# Altium integrated library NSC MiscPower.IntLib: 742 symbols (part 4 of 19)
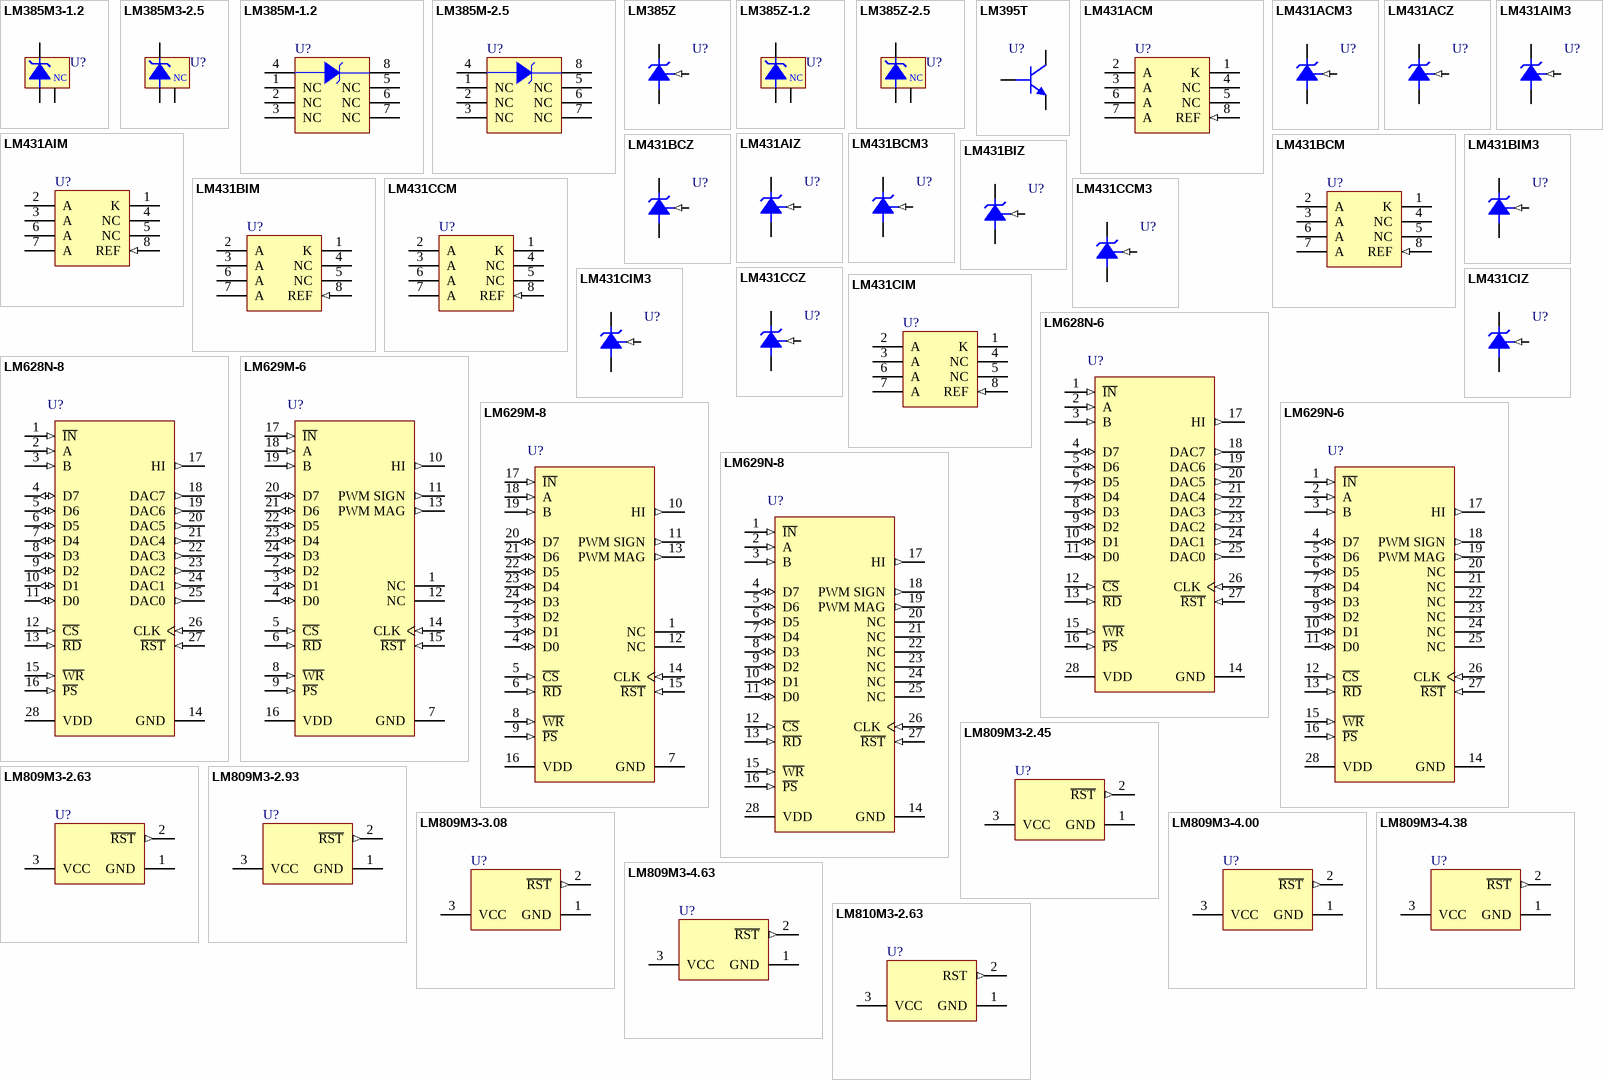
[diagram p28: symbols LM385M3-1.2 to LM810M3-2.63]

## LM809M3-2.93
designator U?
3-Pin Microprocessor Reset Circuit, 2.93V Threshold; PartNumber: LM809M3-2.93; Manufacturer: National Semiconductor; CompType: MiscPower; PackageTopMarking: S4B*XTT; PowerWise: N; FirstPublished: 4-Dec-2008; DatasheetVersion: Sep-2002; PackageVersion: revB, Mar-2003; PackageReference: MF03A; Publisher: Altium Limited; PackageDescription: Molded SOT-23, .115 x .051 x .037in Body, 3 Lead, .075 in Pitch; RoHS: O; PinCount: 3; DigiKeyPartNumber: LM809M3-2.93CT-ND; ComponentLink1Description: LM809 Datasheet; ComponentLink1URL: http://www.national.com/ds/LM/LM809.pdf; ComponentLink2Description: LM809 Web Page; ComponentLink2URL: http://www.national.com/mpf/LM/LM809.html; ComponentLink3Description: MF03A Package Page; ComponentLink3URL: http://www.national.com/packaging/folders/mf03a.html
footprint MF03A_N (SOT23, 3-Leads, Body 2.9x1.3mm, Pitch 0.95mm, Lead Span 2.4mm, IPC Medium Density)
footprint MF03A_L (SOT23, 3-Leads, Body 2.9x1.3mm, Pitch 0.95mm, Lead Span 2.4mm, IPC High Density)
footprint MF03A_M (SOT23, 3-Leads, Body 2.9x1.3mm, Pitch 0.95mm, Lead Span 2.4mm, IPC Low Density)
pins: 1 GND (power), 2 ~{RST} (out), 3 VCC (power)

## LM809M3-3.08
designator U?
3-Pin Microprocessor Reset Circuit, 3.08V Threshold; PartNumber: LM809M3-3.08; Manufacturer: National Semiconductor; CompType: MiscPower; PackageTopMarking: S5B*XTT; PowerWise: N; FirstPublished: 4-Dec-2008; DatasheetVersion: Sep-2002; PackageVersion: revB, Mar-2003; PackageReference: MF03A; Publisher: Altium Limited; PackageDescription: Molded SOT-23, .115 x .051 x .037in Body, 3 Lead, .075 in Pitch; RoHS: O; PinCount: 3; DigiKeyPartNumber: LM809M3-3.08CT-ND; ComponentLink1Description: LM809 Datasheet; ComponentLink1URL: http://www.national.com/ds/LM/LM809.pdf; ComponentLink2Description: LM809 Web Page; ComponentLink2URL: http://www.national.com/mpf/LM/LM809.html; ComponentLink3Description: MF03A Package Page; ComponentLink3URL: http://www.national.com/packaging/folders/mf03a.html
footprint MF03A_N (SOT23, 3-Leads, Body 2.9x1.3mm, Pitch 0.95mm, Lead Span 2.4mm, IPC Medium Density)
footprint MF03A_L (SOT23, 3-Leads, Body 2.9x1.3mm, Pitch 0.95mm, Lead Span 2.4mm, IPC High Density)
footprint MF03A_M (SOT23, 3-Leads, Body 2.9x1.3mm, Pitch 0.95mm, Lead Span 2.4mm, IPC Low Density)
pins: 1 GND (power), 2 ~{RST} (out), 3 VCC (power)

## LM809M3-4.00
designator U?
3-Pin Microprocessor Reset Circuit, 4.00V Threshold; PartNumber: LM809M3-4.00; Manufacturer: National Semiconductor; CompType: MiscPower; PackageTopMarking: S6B*XTT; PowerWise: N; FirstPublished: 4-Dec-2008; DatasheetVersion: Sep-2002; PackageVersion: revB, Mar-2003; PackageReference: MF03A; Publisher: Altium Limited; PackageDescription: Molded SOT-23, .115 x .051 x .037in Body, 3 Lead, .075 in Pitch; RoHS: Y; PinCount: 3; DigiKeyPartNumber: LM809M3-4.00CT-ND; ComponentLink1Description: LM809 Datasheet; ComponentLink1URL: http://www.national.com/ds/LM/LM809.pdf; ComponentLink2Description: LM809 Web Page; ComponentLink2URL: http://www.national.com/mpf/LM/LM809.html; ComponentLink3Description: MF03A Package Page; ComponentLink3URL: http://www.national.com/packaging/folders/mf03a.html
footprint MF03A_N (SOT23, 3-Leads, Body 2.9x1.3mm, Pitch 0.95mm, Lead Span 2.4mm, IPC Medium Density)
footprint MF03A_L (SOT23, 3-Leads, Body 2.9x1.3mm, Pitch 0.95mm, Lead Span 2.4mm, IPC High Density)
footprint MF03A_M (SOT23, 3-Leads, Body 2.9x1.3mm, Pitch 0.95mm, Lead Span 2.4mm, IPC Low Density)
pins: 1 GND (power), 2 ~{RST} (out), 3 VCC (power)

## LM809M3-4.38
designator U?
3-Pin Microprocessor Reset Circuit, 4.38V Threshold; PartNumber: LM809M3-4.38; Manufacturer: National Semiconductor; CompType: MiscPower; PackageTopMarking: S7B*XTT; PowerWise: N; FirstPublished: 4-Dec-2008; DatasheetVersion: Sep-2002; PackageVersion: revB, Mar-2003; PackageReference: MF03A; Publisher: Altium Limited; PackageDescription: Molded SOT-23, .115 x .051 x .037in Body, 3 Lead, .075 in Pitch; RoHS: Y; PinCount: 3; DigiKeyPartNumber: LM809M3-4.38CT-ND; ComponentLink1Description: LM809 Datasheet; ComponentLink1URL: http://www.national.com/ds/LM/LM809.pdf; ComponentLink2Description: LM809 Web Page; ComponentLink2URL: http://www.national.com/mpf/LM/LM809.html; ComponentLink3Description: MF03A Package Page; ComponentLink3URL: http://www.national.com/packaging/folders/mf03a.html
footprint MF03A_N (SOT23, 3-Leads, Body 2.9x1.3mm, Pitch 0.95mm, Lead Span 2.4mm, IPC Medium Density)
footprint MF03A_L (SOT23, 3-Leads, Body 2.9x1.3mm, Pitch 0.95mm, Lead Span 2.4mm, IPC High Density)
footprint MF03A_M (SOT23, 3-Leads, Body 2.9x1.3mm, Pitch 0.95mm, Lead Span 2.4mm, IPC Low Density)
pins: 1 GND (power), 2 ~{RST} (out), 3 VCC (power)

## LM809M3-4.63
designator U?
3-Pin Microprocessor Reset Circuit, 4.63V Threshold; PartNumber: LM809M3-4.63; Manufacturer: National Semiconductor; CompType: MiscPower; PackageTopMarking: S8B*XTT; PowerWise: N; FirstPublished: 4-Dec-2008; DatasheetVersion: Sep-2002; PackageVersion: revB, Mar-2003; PackageReference: MF03A; Publisher: Altium Limited; PackageDescription: Molded SOT-23, .115 x .051 x .037in Body, 3 Lead, .075 in Pitch; RoHS: Y; PinCount: 3; DigiKeyPartNumber: LM809M3-4.63CT-ND; ComponentLink1Description: LM809 Datasheet; ComponentLink1URL: http://www.national.com/ds/LM/LM809.pdf; ComponentLink2Description: LM809 Web Page; ComponentLink2URL: http://www.national.com/mpf/LM/LM809.html; ComponentLink3Description: MF03A Package Page; ComponentLink3URL: http://www.national.com/packaging/folders/mf03a.html
footprint MF03A_N (SOT23, 3-Leads, Body 2.9x1.3mm, Pitch 0.95mm, Lead Span 2.4mm, IPC Medium Density)
footprint MF03A_L (SOT23, 3-Leads, Body 2.9x1.3mm, Pitch 0.95mm, Lead Span 2.4mm, IPC High Density)
footprint MF03A_M (SOT23, 3-Leads, Body 2.9x1.3mm, Pitch 0.95mm, Lead Span 2.4mm, IPC Low Density)
pins: 1 GND (power), 2 ~{RST} (out), 3 VCC (power)

## LM810M3-2.63
designator U?
3-Pin Microprocessor Reset Circuit, 2.63V Threshold; PartNumber: LM810M3-2.63; Manufacturer: National Semiconductor; CompType: MiscPower; PackageTopMarking: S9B*XTT; PowerWise: N; FirstPublished: 29-May-2009; DatasheetVersion: Sep-2002; PackageVersion: revB, Mar-2003; PackageReference: MF03A; Publisher: Altium Limited; PackageDescription: Molded SOT-23, .115 x .051 x .037in Body, 3 Lead, .075 in Pitch; RoHS: Y; PinCount: 3; DigiKeyPartNumber: LM810M3-2.63CT-ND; ComponentLink1Description: LM810 Datasheet; ComponentLink1URL: http://www.national.com/ds/LM/LM809.pdf; ComponentLink2Description: LM810 Web Page; ComponentLink2URL: http://www.national.com/mpf/LM/LM810.html; ComponentLink3Description: MF03A Package Page; ComponentLink3URL: http://www.national.com/packaging/folders/mf03a.html
footprint MF03A_N (SOT23, 3-Leads, Body 2.9x1.3mm, Pitch 0.95mm, Lead Span 2.4mm, IPC Medium Density)
footprint MF03A_L (SOT23, 3-Leads, Body 2.9x1.3mm, Pitch 0.95mm, Lead Span 2.4mm, IPC High Density)
footprint MF03A_M (SOT23, 3-Leads, Body 2.9x1.3mm, Pitch 0.95mm, Lead Span 2.4mm, IPC Low Density)
pins: 1 GND (power), 2 RST (out), 3 VCC (power)

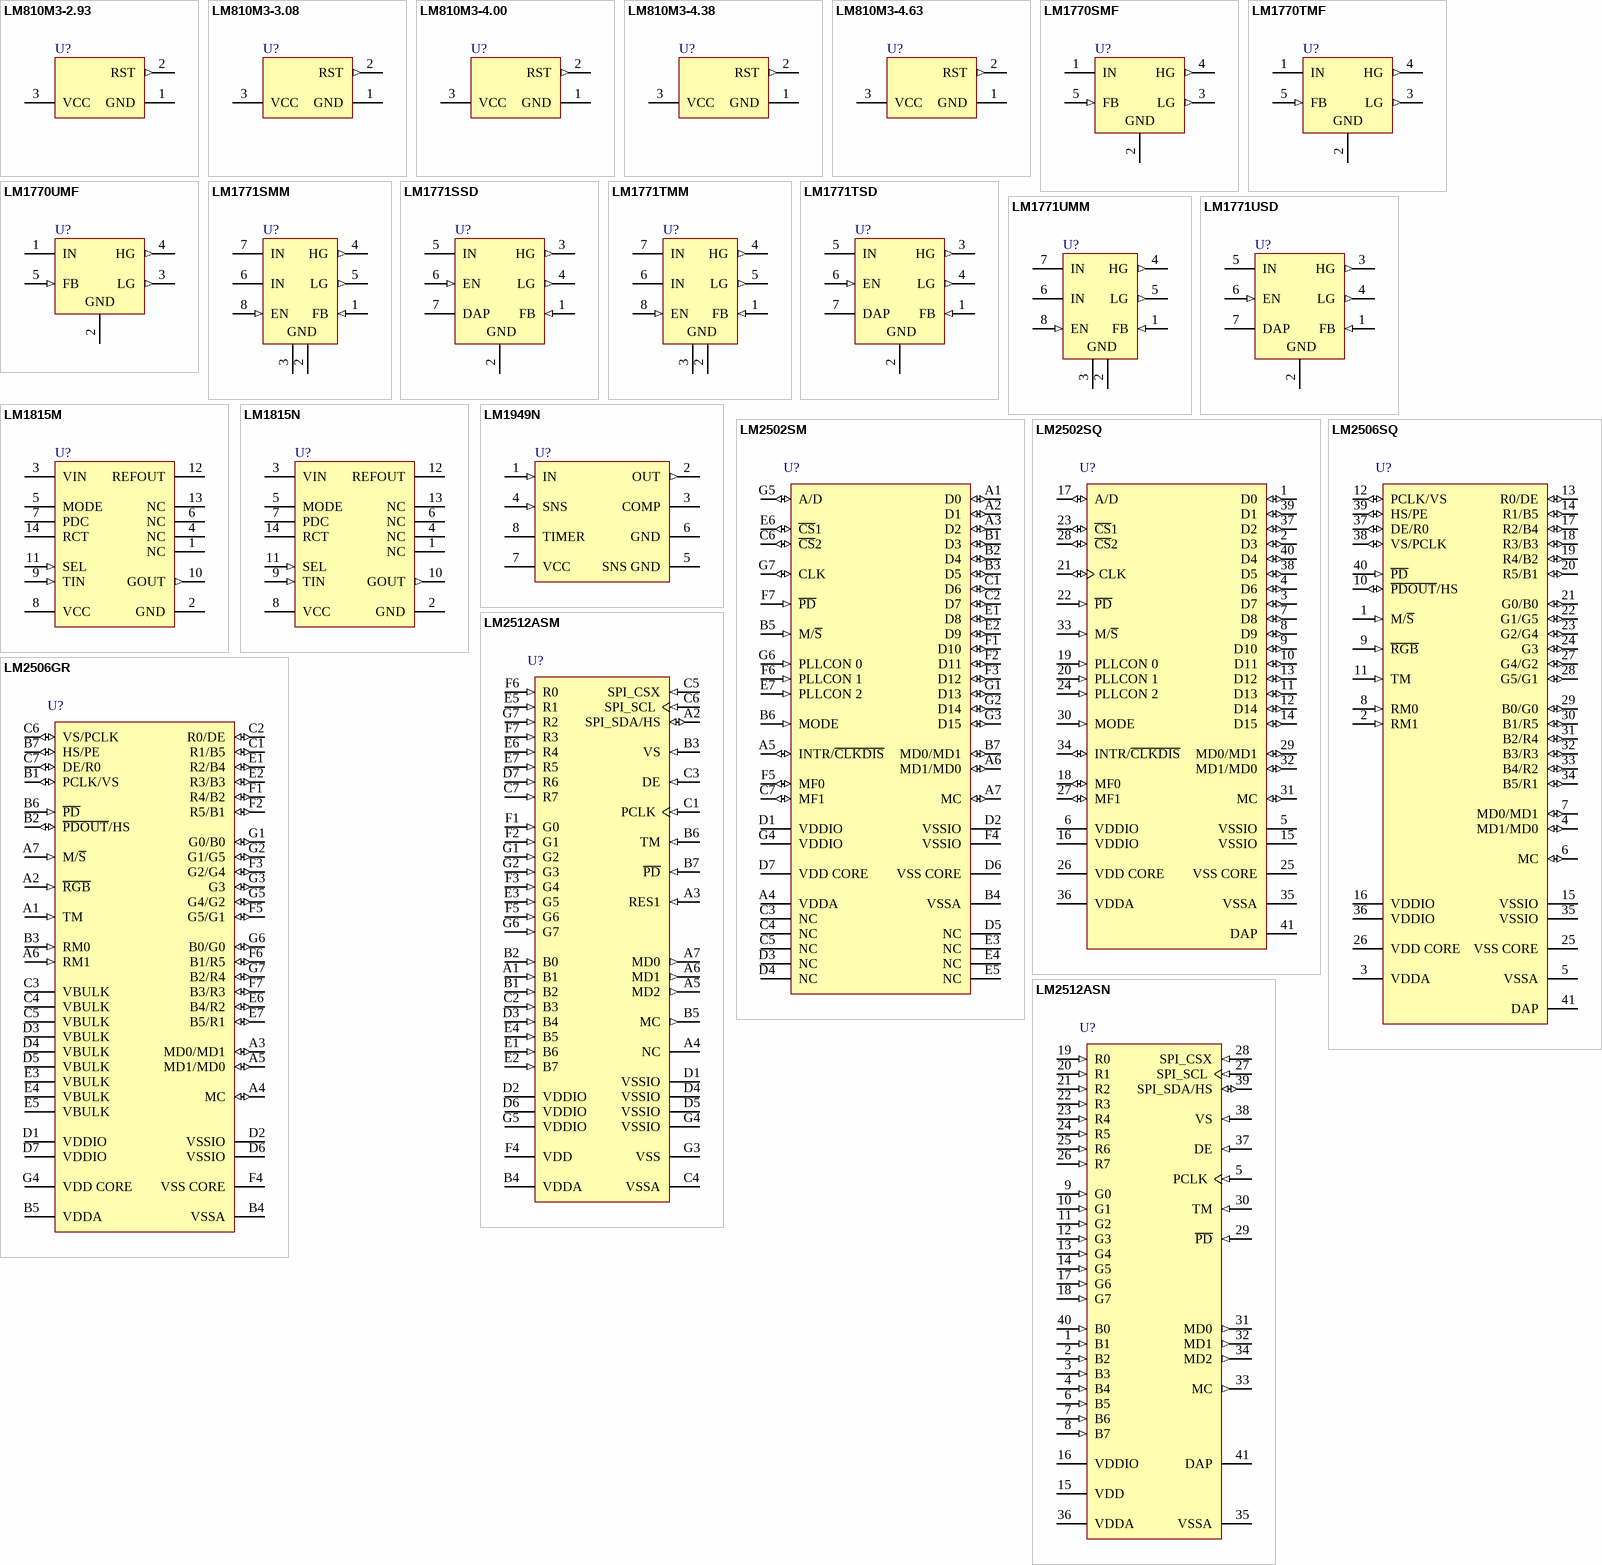
[diagram p4: symbols LM810M3-2.93 to LM2512ASN]

## LM810M3-2.93
designator U?
3-Pin Microprocessor Reset Circuit, 2.93V Threshold; PartNumber: LM810M3-2.93; Manufacturer: National Semiconductor; CompType: MiscPower; PackageTopMarking: SAB*XTT; PowerWise: N; FirstPublished: 29-May-2009; DatasheetVersion: Sep-2002; PackageVersion: revB, Mar-2003; PackageReference: MF03A; Publisher: Altium Limited; PackageDescription: Molded SOT-23, .115 x .051 x .037in Body, 3 Lead, .075 in Pitch; RoHS: Y; PinCount: 3; DigiKeyPartNumber: LM810M3-2.93CT-ND; ComponentLink1Description: LM810 Datasheet; ComponentLink1URL: http://www.national.com/ds/LM/LM809.pdf; ComponentLink2Description: LM810 Web Page; ComponentLink2URL: http://www.national.com/mpf/LM/LM810.html; ComponentLink3Description: MF03A Package Page; ComponentLink3URL: http://www.national.com/packaging/folders/mf03a.html
footprint MF03A_N (SOT23, 3-Leads, Body 2.9x1.3mm, Pitch 0.95mm, Lead Span 2.4mm, IPC Medium Density)
footprint MF03A_L (SOT23, 3-Leads, Body 2.9x1.3mm, Pitch 0.95mm, Lead Span 2.4mm, IPC High Density)
footprint MF03A_M (SOT23, 3-Leads, Body 2.9x1.3mm, Pitch 0.95mm, Lead Span 2.4mm, IPC Low Density)
pins: 1 GND (power), 2 RST (out), 3 VCC (power)

## LM810M3-3.08
designator U?
3-Pin Microprocessor Reset Circuit, 3.08V Threshold; PartNumber: LM810M3-3.08; Manufacturer: National Semiconductor; CompType: MiscPower; PackageTopMarking: SBB*XTT; PowerWise: N; FirstPublished: 29-May-2009; DatasheetVersion: Sep-2002; PackageVersion: revB, Mar-2003; PackageReference: MF03A; Publisher: Altium Limited; PackageDescription: Molded SOT-23, .115 x .051 x .037in Body, 3 Lead, .075 in Pitch; RoHS: O; PinCount: 3; DigiKeyPartNumber: LM810M3-3.08CT-ND; ComponentLink1Description: LM810 Datasheet; ComponentLink1URL: http://www.national.com/ds/LM/LM809.pdf; ComponentLink2Description: LM810 Web Page; ComponentLink2URL: http://www.national.com/mpf/LM/LM810.html; ComponentLink3Description: MF03A Package Page; ComponentLink3URL: http://www.national.com/packaging/folders/mf03a.html
footprint MF03A_N (SOT23, 3-Leads, Body 2.9x1.3mm, Pitch 0.95mm, Lead Span 2.4mm, IPC Medium Density)
footprint MF03A_L (SOT23, 3-Leads, Body 2.9x1.3mm, Pitch 0.95mm, Lead Span 2.4mm, IPC High Density)
footprint MF03A_M (SOT23, 3-Leads, Body 2.9x1.3mm, Pitch 0.95mm, Lead Span 2.4mm, IPC Low Density)
pins: 1 GND (power), 2 RST (out), 3 VCC (power)

## LM810M3-4.00
designator U?
3-Pin Microprocessor Reset Circuit, 4.00V Threshold; PartNumber: LM810M3-4.00; Manufacturer: National Semiconductor; CompType: MiscPower; PackageTopMarking: SCB*XTT; PowerWise: N; FirstPublished: 29-May-2009; DatasheetVersion: Sep-2002; PackageVersion: revB, Mar-2003; PackageReference: MF03A; Publisher: Altium Limited; PackageDescription: Molded SOT-23, .115 x .051 x .037in Body, 3 Lead, .075 in Pitch; RoHS: O; PinCount: 3; DigiKeyPartNumber: LM810M3-4.00CT-ND; ComponentLink1Description: LM810 Datasheet; ComponentLink1URL: http://www.national.com/ds/LM/LM809.pdf; ComponentLink2Description: LM810 Web Page; ComponentLink2URL: http://www.national.com/mpf/LM/LM810.html; ComponentLink3Description: MF03A Package Page; ComponentLink3URL: http://www.national.com/packaging/folders/mf03a.html
footprint MF03A_N (SOT23, 3-Leads, Body 2.9x1.3mm, Pitch 0.95mm, Lead Span 2.4mm, IPC Medium Density)
footprint MF03A_L (SOT23, 3-Leads, Body 2.9x1.3mm, Pitch 0.95mm, Lead Span 2.4mm, IPC High Density)
footprint MF03A_M (SOT23, 3-Leads, Body 2.9x1.3mm, Pitch 0.95mm, Lead Span 2.4mm, IPC Low Density)
pins: 1 GND (power), 2 RST (out), 3 VCC (power)

## LM810M3-4.38
designator U?
3-Pin Microprocessor Reset Circuit, 4.38V Threshold; PartNumber: LM810M3-4.38; Manufacturer: National Semiconductor; CompType: MiscPower; PackageTopMarking: SDB*XTT; PowerWise: N; FirstPublished: 29-May-2009; DatasheetVersion: Sep-2002; PackageVersion: revB, Mar-2003; PackageReference: MF03A; Publisher: Altium Limited; PackageDescription: Molded SOT-23, .115 x .051 x .037in Body, 3 Lead, .075 in Pitch; RoHS: Y; PinCount: 3; DigiKeyPartNumber: LM810M3-4.38CT-ND; ComponentLink1Description: LM810 Datasheet; ComponentLink1URL: http://www.national.com/ds/LM/LM809.pdf; ComponentLink2Description: LM810 Web Page; ComponentLink2URL: http://www.national.com/mpf/LM/LM810.html; ComponentLink3Description: MF03A Package Page; ComponentLink3URL: http://www.national.com/packaging/folders/mf03a.html
footprint MF03A_N (SOT23, 3-Leads, Body 2.9x1.3mm, Pitch 0.95mm, Lead Span 2.4mm, IPC Medium Density)
footprint MF03A_L (SOT23, 3-Leads, Body 2.9x1.3mm, Pitch 0.95mm, Lead Span 2.4mm, IPC High Density)
footprint MF03A_M (SOT23, 3-Leads, Body 2.9x1.3mm, Pitch 0.95mm, Lead Span 2.4mm, IPC Low Density)
pins: 1 GND (power), 2 RST (out), 3 VCC (power)

## LM810M3-4.63
designator U?
3-Pin Microprocessor Reset Circuit, 4.63V Threshold; PartNumber: LM810M3-4.63; Manufacturer: National Semiconductor; CompType: MiscPower; PackageTopMarking: SEB*XTT; PowerWise: N; FirstPublished: 4-Dec-2008; DatasheetVersion: Sep-2002; PackageVersion: revB, Mar-2003; PackageReference: MF03A; Publisher: Altium Limited; PackageDescription: Molded SOT-23, .115 x .051 x .037in Body, 3 Lead, .075 in Pitch; RoHS: O; PinCount: 3; DigiKeyPartNumber: LM810M3-4.63CT-ND; ComponentLink1Description: LM810 Datasheet; ComponentLink1URL: http://www.national.com/ds/LM/LM809.pdf; ComponentLink2Description: LM810 Web Page; ComponentLink2URL: http://www.national.com/mpf/LM/LM810.html; ComponentLink3Description: MF03A Package Page; ComponentLink3URL: http://www.national.com/packaging/folders/mf03a.html
footprint MF03A_N (SOT23, 3-Leads, Body 2.9x1.3mm, Pitch 0.95mm, Lead Span 2.4mm, IPC Medium Density)
footprint MF03A_L (SOT23, 3-Leads, Body 2.9x1.3mm, Pitch 0.95mm, Lead Span 2.4mm, IPC High Density)
footprint MF03A_M (SOT23, 3-Leads, Body 2.9x1.3mm, Pitch 0.95mm, Lead Span 2.4mm, IPC Low Density)
pins: 1 GND (power), 2 RST (out), 3 VCC (power)

## LM1770SMF
designator U?
Low-Voltage SOT23 Synchronous Buck Controller With No External Compensation; PartNumber: LM1770SMF; Manufacturer: National Semiconductor; CompType: MiscPower; PackageTopMarking: SKJB*XTT; PowerWise: Y; FirstPublished: 4-Dec-2008; DatasheetVersion: Jul-2006; PackageVersion: revD, Aug-2008; PackageReference: MF05A; Publisher: Altium Limited; PackageDescription: Molded SOT-23, .115 x .063 x .040 in Body, 5 Lead, .0375 in Pitch; RoHS: Y; PinCount: 5; DigiKeyPartNumber: LM1770SMFCT-ND; ComponentLink1Description: LM1770 Datasheet; ComponentLink1URL: http://www.national.com/ds/LM/LM1770.pdf; ComponentLink2Description: LM1770 Web Page; ComponentLink2URL: http://www.national.com/pf/LM/LM1770.html; ComponentLink3Description: MF05A Package Page; ComponentLink3URL: http://www.national.com/packaging/folders/mf05a.html
footprint MF05A_N (SOT23, 5-Leads, Body 2.9x1.6mm, Pitch 0.95mm, Lead Span 2.8mm, IPC Medium Density)
footprint MF05A_L (SOT23, 5-Leads, Body 2.9x1.6mm, Pitch 0.95mm, Lead Span 2.8mm, IPC High Density)
footprint MF05A_M (SOT23, 5-Leads, Body 2.9x1.6mm, Pitch 0.95mm, Lead Span 2.8mm, IPC Low Density)
pins: 1 IN (power), 2 GND (power), 3 LG (out), 4 HG (out), 5 FB (in)

## LM1770TMF
designator U?
Low-Voltage SOT23 Synchronous Buck Controller With No External Compensation; PartNumber: LM1770TMF; Manufacturer: National Semiconductor; CompType: MiscPower; PackageTopMarking: SKKB*XTT; PowerWise: Y; FirstPublished: 4-Dec-2008; DatasheetVersion: Jul-2006; PackageVersion: revD, Aug-2008; PackageReference: MF05A; Publisher: Altium Limited; PackageDescription: Molded SOT-23, .115 x .063 x .040 in Body, 5 Lead, .0375 in Pitch; RoHS: O; PinCount: 5; DigiKeyPartNumber: LM1770TMFCT-ND; ComponentLink1Description: LM1770 Datasheet; ComponentLink1URL: http://www.national.com/ds/LM/LM1770.pdf; ComponentLink2Description: LM1770 Web Page; ComponentLink2URL: http://www.national.com/pf/LM/LM1770.html; ComponentLink3Description: MF05A Package Page; ComponentLink3URL: http://www.national.com/packaging/folders/mf05a.html
footprint MF05A_N (SOT23, 5-Leads, Body 2.9x1.6mm, Pitch 0.95mm, Lead Span 2.8mm, IPC Medium Density)
footprint MF05A_L (SOT23, 5-Leads, Body 2.9x1.6mm, Pitch 0.95mm, Lead Span 2.8mm, IPC High Density)
footprint MF05A_M (SOT23, 5-Leads, Body 2.9x1.6mm, Pitch 0.95mm, Lead Span 2.8mm, IPC Low Density)
pins: 1 IN (power), 2 GND (power), 3 LG (out), 4 HG (out), 5 FB (in)

## LM1770UMF
designator U?
Low-Voltage SOT23 Synchronous Buck Controller With No External Compensation; PartNumber: LM1770UMF; Manufacturer: National Semiconductor; CompType: MiscPower; PackageTopMarking: SKLB*XTT; PowerWise: Y; FirstPublished: 4-Dec-2008; DatasheetVersion: Jul-2006; PackageVersion: revD, Aug-2008; PackageReference: MF05A; Publisher: Altium Limited; PackageDescription: Molded SOT-23, .115 x .063 x .040 in Body, 5 Lead, .0375 in Pitch; RoHS: Y; PinCount: 5; DigiKeyPartNumber: LM1770UMFCT-ND; ComponentLink1Description: LM1770 Datasheet; ComponentLink1URL: http://www.national.com/ds/LM/LM1770.pdf; ComponentLink2Description: LM1770 Web Page; ComponentLink2URL: http://www.national.com/pf/LM/LM1770.html; ComponentLink3Description: MF05A Package Page; ComponentLink3URL: http://www.national.com/packaging/folders/mf05a.html
footprint MF05A_N (SOT23, 5-Leads, Body 2.9x1.6mm, Pitch 0.95mm, Lead Span 2.8mm, IPC Medium Density)
footprint MF05A_L (SOT23, 5-Leads, Body 2.9x1.6mm, Pitch 0.95mm, Lead Span 2.8mm, IPC High Density)
footprint MF05A_M (SOT23, 5-Leads, Body 2.9x1.6mm, Pitch 0.95mm, Lead Span 2.8mm, IPC Low Density)
pins: 1 IN (power), 2 GND (power), 3 LG (out), 4 HG (out), 5 FB (in)

## LM1771SMM
designator U?
Low-Voltage Synchronous Buck Controller with Precision Enable and No External Compensation; PartNumber: LM1771SMM; Manufacturer: National Semiconductor; CompType: MiscPower; PackageTopMarking: ZXTT*SNRB; PowerWise: N; FirstPublished: 4-Dec-2008; DatasheetVersion: Oct-2006; PackageVersion: revF, Apr-2008; PackageReference: MUA08A; Publisher: Altium Limited; PackageDescription: MINI SOIC, .118 x .118 x .034in, 8 Lead, .0256in Pitch; RoHS: Y; PinCount: 8; DigiKeyPartNumber: LM1771SMMCT-ND; Code_JEDEC: MO-187-AA; ComponentLink1Description: LM1771 Datasheet; ComponentLink1URL: http://www.national.com/ds/LM/LM1771.pdf; ComponentLink2Description: LM1771 Web Page; ComponentLink2URL: http://www.national.com/pf/LM/LM1771.html; ComponentLink3Description: MUA08A Package Page; ComponentLink3URL: http://www.national.com/packaging/folders/mua08a.html
footprint MUA08A_N (TSOP, 8-Leads, Body 3x3mm, Pitch 0.65mm, IPC Medium Density)
footprint MUA08A_L (TSOP, 8-Leads, Body 3x3mm, Pitch 0.65mm, IPC High Density)
footprint MUA08A_M (TSOP, 8-Leads, Body 3x3mm, Pitch 0.65mm, IPC Low Density)
pins: 1 FB (in), 2 GND (power), 3 GND (power), 4 HG (out), 5 LG (out), 6 IN (power), 7 IN (power), 8 EN (in)

## LM1771SSD
designator U?
Low-Voltage Synchronous Buck Controller with Precision Enable and No External Compensation; PartNumber: LM1771SSD; Manufacturer: National Semiconductor; CompType: MiscPower; PackageTopMarking: ZXYTT*1771S; PowerWise: Y; FirstPublished: 4-Dec-2008; DatasheetVersion: Oct-2006; PackageVersion: revA, Jul-2003; PackageReference: SDE06A; Publisher: Altium Limited; PackageDescription: LLP, Plastic, Dual, 3 x 3 x 0.8mm Body, 6 Lead, 0.95mm Pitch, No Pullback; RoHS: Y; PinCount: 6; DigiKeyPartNumber: LM1771SSDCT-ND; ComponentLink1Description: LM1771 Datasheet; ComponentLink1URL: http://www.national.com/ds/LM/LM1771.pdf; ComponentLink2Description: LM1771 Web Page; ComponentLink2URL: http://www.national.com/pf/LM/LM1771.html; ComponentLink3Description: SDE06A Package Page; ComponentLink3URL: http://www.national.com/packaging/folders/sde06a.html
footprint SDE06A_full (SON, 6-Leads, Body 3x3 mm, Pitch 0.95mm, Full Paste, NSC Recommended)
footprint SDE06A_quad (SON, 6-Leads, Body 3x3 mm, Pitch 0.95mm, Quad Paste, NSC Recommended)
pins: 1 FB (in), 2 GND (power), 3 HG (out), 4 LG (out), 5 IN (power), 6 EN (in), 7 DAP (power)

## LM1771TMM
designator U?
Low-Voltage Synchronous Buck Controller with Precision Enable and No External Compensation; PartNumber: LM1771TMM; Manufacturer: National Semiconductor; CompType: MiscPower; PackageTopMarking: ZXTT*SNSB; PowerWise: N; FirstPublished: 4-Dec-2008; DatasheetVersion: Oct-2006; PackageVersion: revF, Apr-2008; PackageReference: MUA08A; Publisher: Altium Limited; PackageDescription: MINI SOIC, .118 x .118 x .034in, 8 Lead, .0256in Pitch; RoHS: Y; PinCount: 8; DigiKeyPartNumber: LM1771TMMCT-ND; Code_JEDEC: MO-187-AA; ComponentLink1Description: LM1771 Datasheet; ComponentLink1URL: http://www.national.com/ds/LM/LM1771.pdf; ComponentLink2Description: LM1771 Web Page; ComponentLink2URL: http://www.national.com/pf/LM/LM1771.html; ComponentLink3Description: MUA08A Package Page; ComponentLink3URL: http://www.national.com/packaging/folders/mua08a.html
footprint MUA08A_N (TSOP, 8-Leads, Body 3x3mm, Pitch 0.65mm, IPC Medium Density)
footprint MUA08A_L (TSOP, 8-Leads, Body 3x3mm, Pitch 0.65mm, IPC High Density)
footprint MUA08A_M (TSOP, 8-Leads, Body 3x3mm, Pitch 0.65mm, IPC Low Density)
pins: 1 FB (in), 2 GND (power), 3 GND (power), 4 HG (out), 5 LG (out), 6 IN (power), 7 IN (power), 8 EN (in)

## LM1771TSD
designator U?
Low-Voltage Synchronous Buck Controller with Precision Enable and No External Compensation; PartNumber: LM1771TSD; Manufacturer: National Semiconductor; CompType: MiscPower; PackageTopMarking: ZXYTT*1771T; PowerWise: Y; FirstPublished: 4-Dec-2008; DatasheetVersion: Oct-2006; PackageVersion: revA, Jul-2003; PackageReference: SDE06A; Publisher: Altium Limited; PackageDescription: LLP, Plastic, Dual, 3 x 3 x 0.8mm Body, 6 Lead, 0.95mm Pitch, No Pullback; RoHS: Y; PinCount: 6; DigiKeyPartNumber: LM1771TSDCT-ND; ComponentLink1Description: LM1771 Datasheet; ComponentLink1URL: http://www.national.com/ds/LM/LM1771.pdf; ComponentLink2Description: LM1771 Web Page; ComponentLink2URL: http://www.national.com/pf/LM/LM1771.html; ComponentLink3Description: SDE06A Package Page; ComponentLink3URL: http://www.national.com/packaging/folders/sde06a.html
footprint SDE06A_full (SON, 6-Leads, Body 3x3 mm, Pitch 0.95mm, Full Paste, NSC Recommended)
footprint SDE06A_quad (SON, 6-Leads, Body 3x3 mm, Pitch 0.95mm, Quad Paste, NSC Recommended)
pins: 1 FB (in), 2 GND (power), 3 HG (out), 4 LG (out), 5 IN (power), 6 EN (in), 7 DAP (power)

## LM1771UMM
designator U?
Low-Voltage Synchronous Buck Controller with Precision Enable and No External Compensation; PartNumber: LM1771UMM; Manufacturer: National Semiconductor; CompType: MiscPower; PackageTopMarking: ZXTT*SNTB; PowerWise: N; FirstPublished: 4-Dec-2008; DatasheetVersion: Oct-2006; PackageVersion: revF, Apr-2008; PackageReference: MUA08A; Publisher: Altium Limited; PackageDescription: MINI SOIC, .118 x .118 x .034in, 8 Lead, .0256in Pitch; RoHS: Y; PinCount: 8; DigiKeyPartNumber: LM1771UMMCT-ND; Code_JEDEC: MO-187-AA; ComponentLink1Description: LM1771 Datasheet; ComponentLink1URL: http://www.national.com/ds/LM/LM1771.pdf; ComponentLink2Description: LM1771 Web Page; ComponentLink2URL: http://www.national.com/pf/LM/LM1771.html; ComponentLink3Description: MUA08A Package Page; ComponentLink3URL: http://www.national.com/packaging/folders/mua08a.html
footprint MUA08A_N (TSOP, 8-Leads, Body 3x3mm, Pitch 0.65mm, IPC Medium Density)
footprint MUA08A_L (TSOP, 8-Leads, Body 3x3mm, Pitch 0.65mm, IPC High Density)
footprint MUA08A_M (TSOP, 8-Leads, Body 3x3mm, Pitch 0.65mm, IPC Low Density)
pins: 1 FB (in), 2 GND (power), 3 GND (power), 4 HG (out), 5 LG (out), 6 IN (power), 7 IN (power), 8 EN (in)

## LM1771USD
designator U?
Low-Voltage Synchronous Buck Controller with Precision Enable and No External Compensation; PartNumber: LM1771USD; Manufacturer: National Semiconductor; CompType: MiscPower; PackageTopMarking: ZXYTT*1771U; PowerWise: Y; FirstPublished: 4-Dec-2008; DatasheetVersion: Oct-2006; PackageVersion: revA, Jul-2003; PackageReference: SDE06A; Publisher: Altium Limited; PackageDescription: LLP, Plastic, Dual, 3 x 3 x 0.8mm Body, 6 Lead, 0.95mm Pitch, No Pullback; RoHS: Y; PinCount: 6; DigiKeyPartNumber: LM1771USDCT-ND; ComponentLink1Description: LM1771 Datasheet; ComponentLink1URL: http://www.national.com/ds/LM/LM1771.pdf; ComponentLink2Description: LM1771 Web Page; ComponentLink2URL: http://www.national.com/pf/LM/LM1771.html; ComponentLink3Description: SDE06A Package Page; ComponentLink3URL: http://www.national.com/packaging/folders/sde06a.html
footprint SDE06A_full (SON, 6-Leads, Body 3x3 mm, Pitch 0.95mm, Full Paste, NSC Recommended)
footprint SDE06A_quad (SON, 6-Leads, Body 3x3 mm, Pitch 0.95mm, Quad Paste, NSC Recommended)
pins: 1 FB (in), 2 GND (power), 3 HG (out), 4 LG (out), 5 IN (power), 6 EN (in), 7 DAP (power)

## LM1815M
designator U?
Adaptive Variable Reluctance Sensor Amplifier; PartNumber: LM1815M; Manufacturer: National Semiconductor; CompType: MiscPower; PackageTopMarking: NSUZXYTT*LM1815M; PowerWise: N; FirstPublished: 4-Dec-2008; DatasheetVersion: Mar-2005; PackageVersion: revJ, Jan-1996; PackageReference: M14A; Publisher: Altium Limited; PackageDescription: Molded Package S.O., .150in Wide, 14 Lead; RoHS: O; PinCount: 14; DigiKeyPartNumber: LM1815M-ND; Code_JEDEC: MS-012AB; Code_IPC: SOIC127P600-14; ComponentLink1Description: LM1815 Datasheet; ComponentLink1URL: http://www.national.com/ds/LM/LM1815.pdf; ComponentLink2Description: LM1815 Web Page; ComponentLink2URL: http://www.national.com/pf/LM/LM1815.html; ComponentLink3Description: M14A Package Page; ComponentLink3URL: http://www.national.com/packaging/folders/m14a.html
footprint M14A_N (SOIC, 14-Leads, Body 8.6x3.9mm, Pitch 1.27mm, IPC Medium Density)
footprint M14A_L (SOIC, 14-Leads, Body 8.6x3.9mm, Pitch 1.27mm, IPC High Density)
footprint M14A_M (SOIC, 14-Leads, Body 8.6x3.9mm, Pitch 1.27mm, IPC Low Density)
pins: 1 NC, 2 GND (power), 3 VIN (power), 4 NC, 5 MODE, 6 NC, 7 PDC, 8 VCC (power), 9 TIN (in), 10 GOUT (out), 11 SEL (in), 12 REFOUT (oc), 13 NC, 14 RCT

## LM1815N
designator U?
Adaptive Variable Reluctance Sensor Amplifier; PartNumber: LM1815N; Manufacturer: National Semiconductor; CompType: MiscPower; PackageTopMarking: NSUZXYYTTE#*LM1815N; PowerWise: N; FirstPublished: 29-May-2009; DatasheetVersion: Mar-2005; PackageVersion: revG, May-2006; PackageReference: N14A; Publisher: Altium Limited; PackageDescription: MDIP, .750 x .250 x.130in, 14 Lead, .100in Pitch; RoHS: Y; PinCount: 14; DigiKeyPartNumber: LM1815N-ND; Code_JEDEC: MS-001-AA; ComponentLink1Description: LM1815 Datasheet; ComponentLink1URL: http://www.national.com/ds/LM/LM1815.pdf; ComponentLink2Description: LM1815 Web Page; ComponentLink2URL: http://www.national.com/pf/LM/LM1815.html; ComponentLink3Description: N14A Package Page; ComponentLink3URL: http://www.national.com/packaging/folders/n14a.html
footprint N14A (DIP, 14-Leads, Row Spacing 7.62mm, Pitch 2.54mm, Body 19.56x6.35mm)
pins: 1 NC, 2 GND (power), 3 VIN (power), 4 NC, 5 MODE, 6 NC, 7 PDC, 8 VCC (power), 9 TIN (in), 10 GOUT (out), 11 SEL (in), 12 REFOUT (oc), 13 NC, 14 RCT

## LM1949N
designator U?
Injector Drive Controller; PartNumber: LM1949N; Manufacturer: National Semiconductor; CompType: MiscPower; PackageTopMarking: NSUZXYTT*LM*1949N; PowerWise: N; FirstPublished: 4-Dec-2008; DatasheetVersion: Feb-1995; PackageVersion: revG, May-2006; PackageReference: N08E; Publisher: Altium Limited; PackageDescription: MDIP, .365 x .250 x .130in, 8 Lead, .100in Pitch; RoHS: O; PinCount: 8; DigiKeyPartNumber: LM1949N-ND; Code_JEDEC: MS-001-BA; ComponentLink1Description: LM1949 Datasheet; ComponentLink1URL: http://www.national.com/ds/LM/LM1949.pdf; ComponentLink2Description: LM1949 Web Page; ComponentLink2URL: http://www.national.com/pf/LM/LM1949.html; ComponentLink3Description: N08E Package Page; ComponentLink3URL: http://www.national.com/packaging/folders/n08e.html
footprint N08E (DIP, 8-Leads, Row Spacing 7.62mm, Pitch 2.54mm, Body 9.91x6.35mm)
pins: 1 IN (in), 2 OUT (out), 3 COMP, 4 SNS (in), 5 SNS GND (power), 6 GND (power), 7 VCC (power), 8 TIMER

## LM2502SM
designator U?
Mobile Pixel Link (MPL) Display Interface Serializer and Deserializer; PartNumber: LM2502SM; Manufacturer: National Semiconductor; CompType: MiscPower; PackageTopMarking: ZXYTT*L2502; PowerWise: Y; FirstPublished: 4-Dec-2008; DatasheetVersion: Jan-2006; PackageVersion: revD, Jul-2007; PackageReference: SLH49A; Publisher: Altium Limited; PackageDescription: UFBGA, Plastic, Laminate, 4 x 4 x 1mm Body, 49 Ball, 0.5mm Pitch; RoHS: Y; PinCount: 49; DigiKeyPartNumber: LM2502SMCT-ND; ComponentLink1Description: LM2502 Datasheet; ComponentLink1URL: http://www.national.com/ds/LM/LM2502.pdf; ComponentLink2Description: LM2502 Web Page; ComponentLink2URL: http://www.national.com/pf/LM/LM2502.html; ComponentLink3Description: SLH49A Package Page; ComponentLink3URL: http://www.national.com/packaging/folders/slh49a.html
footprint SLH49A (BGA, 49-Leads, Body 4x4mm, Pitch 0.5mm)
pins: A1 D0 (io), A2 D1 (io), A3 D2 (io), A4 VDDA (power), A5 INTR/~{CLKDIS} (io), A6 MD1/MD0 (io), A7 MC (io), B1 D3 (io), B2 D4 (io), B3 D5 (io), B4 VSSA (power), B5 M/~{S} (in), B6 MODE (in), B7 MD0/MD1 (io), C1 D6 (io), C2 D7 (io), C3 NC, C4 NC, C5 NC, C6 ~{CS}2 (io), C7 MF1 (io), D1 VDDIO (power), D2 VSSIO (power), D3 NC, D4 NC, D5 NC, D6 VSS CORE (power), D7 VDD CORE (power), E1 D8 (io), E2 D9 (io), E3 NC, E4 NC, E5 NC, E6 ~{CS}1 (io), E7 PLLCON 2 (in), F1 D10 (io), F2 D11 (io), F3 D12 (io), F4 VSSIO (power), F5 MF0 (io), F6 PLLCON 1 (in), F7 ~{PD} (in), G1 D13 (io), G2 D14 (io), G3 D15 (io), G4 VDDIO (power), G5 A/D (io), G6 PLLCON 0 (in), G7 CLK (io)

## LM2502SQ
designator U?
Mobile Pixel Link (MPL) Display Interface Serializer and Deserializer; PartNumber: LM2502SQ; Manufacturer: National Semiconductor; CompType: MiscPower; PackageTopMarking: NS*UZXYTT*L2502SQ; FirstPublished: 4-Dec-2008; DatasheetVersion: Jan-2006; PackageVersion: revB, Jul-2004; PackageReference: SQF40A; Publisher: Altium Limited; PackageDescription: LLP, Quad, 5 x 5 x 0.8mm Body, 40 Lead, 0.4mm Pitch, 3.6 x 3.6mm Exposed Pad; RoHS: Y; PinCount: 40; DigiKeyPartNumber: LM2502SQCT-ND; ComponentLink1Description: LM2502 Datasheet; ComponentLink1URL: http://www.national.com/ds/LM/LM2502.pdf; ComponentLink2Description: LM2502 Web Page; ComponentLink2URL: http://www.national.com/pf/LM/LM2502.html; ComponentLink3Description: SQF40A Package Page; ComponentLink3URL: http://www.national.com/packaging/folders/sqf40a.html
footprint SQF40A (QFN, 40-Leads, Body 5x5 mm, Pitch 0.4mm, NSC Recommended)
pins: 1 D0 (io), 2 D3 (io), 3 D7 (io), 4 D6 (io), 5 VSSIO (power), 6 VDDIO (power), 7 D8 (io), 8 D9 (io), 9 D10 (io), 10 D11 (io), 11 D13 (io), 12 D14 (io), 13 D12 (io), 14 D15 (io), 15 VSSIO (power), 16 VDDIO (power), 17 A/D (io), 18 MF0 (io), 19 PLLCON 0 (in), 20 PLLCON 1 (in), 21 CLK (io), 22 ~{PD} (in), 23 ~{CS}1 (io), 24 PLLCON 2 (in), 25 VSS CORE (power), 26 VDD CORE (power), 27 MF1 (io), 28 ~{CS}2 (io), 29 MD0/MD1 (io), 30 MODE (in), 31 MC (io), 32 MD1/MD0 (io), 33 M/~{S} (in), 34 INTR/~{CLKDIS} (io), 35 VSSA (power), 36 VDDA (power), 37 D2 (io), 38 D5 (io), 39 D1 (io), 40 D4 (io), 41 DAP (power)

## LM2506GR
designator U?
Low Power Mobile Pixel Link (MPL) Level 0, 18-bit RGB Display Interface Serializer and Deserializer; PartNumber: LM2506GR; Manufacturer: National Semiconductor; CompType: MiscPower; PackageTopMarking: NS*UZXYTT*L2506GR; PowerWise: N; FirstPublished: 4-Dec-2008; DatasheetVersion: Aug-2006; PackageVersion: revA, Nov-2003; PackageReference: GRA49A; Publisher: Altium Limited; PackageDescription: Micro-Array, 4 x 4 x 1mm Body, 49 Ball, 0.5mm Pitch; RoHS: Y; PinCount: 49; DigiKeyPartNumber: LM2506GRCT-ND; ComponentLink1Description: LM2506 Datasheet; ComponentLink1URL: http://www.national.com/ds/LM/LM2506.pdf; ComponentLink2Description: LM2506 Web Page; ComponentLink2URL: http://www.national.com/pf/LM/LM2506.html; ComponentLink3Description: GRA49A Package Page; ComponentLink3URL: http://www.national.com/packaging/folders/gra49a.html
footprint GRA49A (BGA, 49-Leads, Body 4x4mm, Pitch 0.5mm, NSC Recommended)
pins: A1 TM (in), A2 ~{RGB} (in), A3 MD0/MD1 (io), A4 MC (io), A5 MD1/MD0 (io), A6 RM1 (in), A7 M/~{S} (in), B1 PCLK/VS (io), B2 ~{PDOUT}/HS (io), B3 RM0 (in), B4 VSSA (power), B5 VDDA (power), B6 ~{PD} (in), B7 HS/PE (io), C1 R1/B5 (io), C2 R0/DE (io), C3 VBULK (power), C4 VBULK (power), C5 VBULK (power), C6 VS/PCLK (io), C7 DE/R0 (io), D1 VDDIO (power), D2 VSSIO (power), D3 VBULK (power), D4 VBULK (power), D5 VBULK (power), D6 VSSIO (power), D7 VDDIO (power), E1 R2/B4 (io), E2 R3/B3 (io), E3 VBULK (power), E4 VBULK (power), E5 VBULK (power), E6 B4/R2 (io), E7 B5/R1 (io), F1 R4/B2 (io), F2 R5/B1 (io), F3 G2/G4 (io), F4 VSS CORE (power), F5 G5/G1 (io), F6 B1/R5 (io), F7 B3/R3 (io), G1 G0/B0 (io), G2 G1/G5 (io), G3 (io), G4 VDD CORE (power), G5 G4/G2 (io), G6 B0/G0 (io), G7 B2/R4 (io)

## LM2506SQ
designator U?
Low Power Mobile Pixel Link (MPL) Level 0, 18-bit RGB Display Interface Serializer and Deserializer; PartNumber: LM2506SQ; Manufacturer: National Semiconductor; CompType: MiscPower; PackageTopMarking: NS*UZXYTT*L2506SQ; PowerWise: N; FirstPublished: 4-Dec-2008; DatasheetVersion: Aug-2006; PackageVersion: revB, Jul-2004; PackageReference: SQF40A; Publisher: Altium Limited; PackageDescription: LLP, Quad, 5 x 5 x 0.8mm Body, 40 Lead, 0.4mm Pitch, 3.6 x 3.6mm Exposed Pad; RoHS: Y; PinCount: 40; DigiKeyPartNumber: LM2506SQCT-ND; ComponentLink1Description: LM2506 Datasheet; ComponentLink1URL: http://www.national.com/ds/LM/LM2506.pdf; ComponentLink2Description: LM2506 Web Page; ComponentLink2URL: http://www.national.com/pf/LM/LM2506.html; ComponentLink3Description: SQF40A Package Page; ComponentLink3URL: http://www.national.com/packaging/folders/sqf40a.html
footprint SQF40A (QFN, 40-Leads, Body 5x5 mm, Pitch 0.4mm, NSC Recommended)
pins: 1 M/~{S} (in), 2 RM1 (in), 3 VDDA (power), 4 MD1/MD0 (io), 5 VSSA (power), 6 MC (io), 7 MD0/MD1 (io), 8 RM0 (in), 9 ~{RGB} (in), 10 ~{PDOUT}/HS (io), 11 TM (in), 12 PCLK/VS (io), 13 R0/DE (io), 14 R1/B5 (io), 15 VSSIO (power), 16 VDDIO (power), 17 R2/B4 (io), 18 R3/B3 (io), 19 R4/B2 (io), 20 R5/B1 (io), 21 G0/B0 (io), 22 G1/G5 (io), 23 G2/G4 (io), 24 G3 (io), 25 VSS CORE (power), 26 VDD CORE (power), 27 G4/G2 (io), 28 G5/G1 (io), 29 B0/G0 (io), 30 B1/R5 (io), 31 B2/R4 (io), 32 B3/R3 (io), 33 B4/R2 (io), 34 B5/R1 (io), 35 VSSIO (power), 36 VDDIO (power), 37 DE/R0 (io), 38 VS/PCLK (io), 39 HS/PE (io), 40 ~{PD} (in), 41 DAP (power)

## LM2512ASM
designator U?
Mobile Pixel Link (MPL-1), 24-Bit RGB Display Interface Serializer with Optional Dithering and Look Up Table; PartNumber: LM2512ASM; Manufacturer: National Semiconductor; CompType: MiscPower; PackageTopMarking: ZXYTT*2512*ASM; PowerWise: N; FirstPublished: 4-Dec-2008; DatasheetVersion: Sep-2007; PackageVersion: revD, Jul-2007; PackageReference: SLH49A; Publisher: Altium Limited; PackageDescription: UFBGA, Plastic, Laminate, 4 x 4 x 1mm Body, 49 Ball, 0.5mm Pitch; RoHS: Y; PinCount: 49; DigiKeyPartNumber: LM2512ASMCT-ND; ComponentLink1Description: LM2512A Datasheet; ComponentLink1URL: http://www.national.com/ds/LM/LM2512A.pdf; ComponentLink2Description: LM2512A Web Page; ComponentLink2URL: http://www.national.com/pf/LM/LM2512A.html; ComponentLink3Description: SLH49A Package Page; ComponentLink3URL: http://www.national.com/packaging/folders/slh49a.html
footprint SLH49A (BGA, 49-Leads, Body 4x4mm, Pitch 0.5mm)
pins: A1 B1 (in), A2 SPI_SDA/HS (io), A3 RES1 (in), A4 NC, A5 MD2 (out), A6 MD1 (out), A7 MD0 (out), B1 B2 (in), B2 B0 (in), B3 VS (in), B4 VDDA (power), B5 MC (out), B6 TM (in), B7 ~{PD} (in), C1 PCLK (in), C2 B3 (in), C3 DE (in), C4 VSSA (power), C5 SPI_CSX (in), C6 SPI_SCL (in), C7 R7 (in), D1 VSSIO (power), D2 VDDIO (power), D3 B4 (in), D4 VSSIO (power), D5 VSSIO (power), D6 VDDIO (power), D7 R6 (in), E1 B6 (in), E2 B7 (in), E3 G5 (in), E4 B5 (in), E5 R1 (in), E6 R4 (in), E7 R5 (in), F1 G0 (in), F2 G1 (in), F3 G4 (in), F4 VDD (power), F5 G6 (in), F6 R0 (in), F7 R3 (in), G1 G2 (in), G2 G3 (in), G3 VSS (power), G4 VSSIO (power), G5 VDDIO (power), G6 G7 (in), G7 R2 (in)

## LM2512ASN
designator U?
Mobile Pixel Link (MPL-1), 24-Bit RGB Display Interface Serializer with Optional Dithering and Look Up Table; PartNumber: LM2512ASN; Manufacturer: National Semiconductor; CompType: MiscPower; PackageTopMarking: NS*UZXYTT*2512A; PowerWise: N; FirstPublished: 4-Dec-2008; DatasheetVersion: Sep-2007; PackageVersion: revA, Mar-2005; PackageReference: SNA40A; Publisher: Altium Limited; PackageDescription: Thin LLP, Quad, 6 x 6 x 0.4mm Body, 40 Lead, 0.5mm Pitch, No Pullback; RoHS: Y; PinCount: 40; DigiKeyPartNumber: LM2512ASNCT-ND; ComponentLink1Description: LM2512A Datasheet; ComponentLink1URL: http://www.national.com/ds/LM/LM2512A.pdf; ComponentLink2Description: LM2512A Web Page; ComponentLink2URL: http://www.national.com/pf/LM/LM2512A.html; ComponentLink3Description: SNA40A Package Page; ComponentLink3URL: http://www.national.com/packaging/folders/sna40a.html
footprint SNA40A (QFN, 40-Leads, Body 6x6mm, Pitch 0.5mm, NSC Recommended)
pins: 1 B1 (in), 2 B2 (in), 3 B3 (in), 4 B4 (in), 5 PCLK (in), 6 B5 (in), 7 B6 (in), 8 B7 (in), 9 G0 (in), 10 G1 (in), 11 G2 (in), 12 G3 (in), 13 G4 (in), 14 G5 (in), 15 VDD (power), 16 VDDIO (power), 17 G6 (in), 18 G7 (in), 19 R0 (in), 20 R1 (in), 21 R2 (in), 22 R3 (in), 23 R4 (in), 24 R5 (in), 25 R6 (in), 26 R7 (in), 27 SPI_SCL (in), 28 SPI_CSX (in), 29 ~{PD} (in), 30 TM (in), 31 MD0 (out), 32 MD1 (out), 33 MC (out), 34 MD2 (out), 35 VSSA (power), 36 VDDA (power), 37 DE (in), 38 VS (in), 39 SPI_SDA/HS (io), 40 B0 (in), 41 DAP (power)

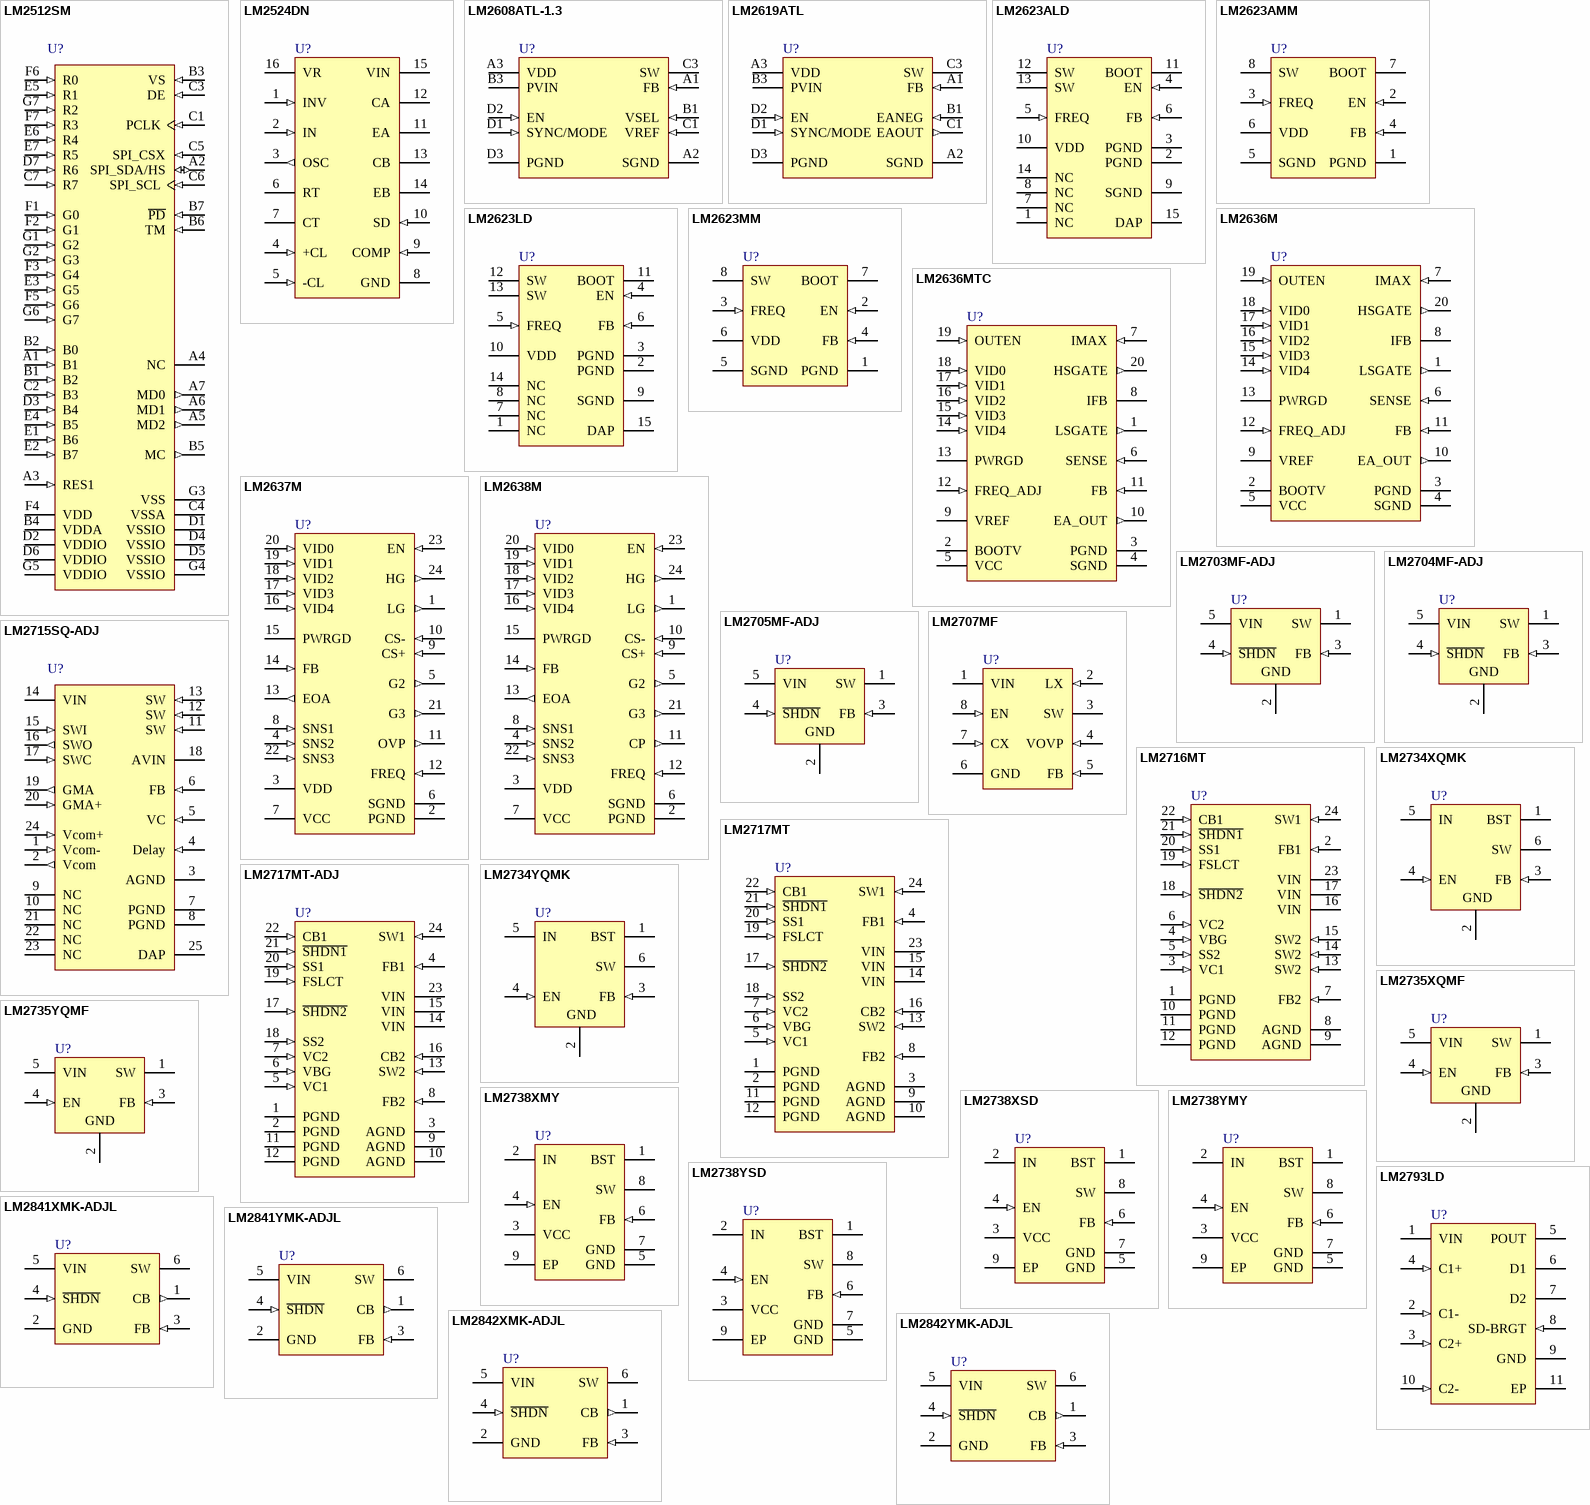
[diagram p5: symbols LM2512SM to LM2842YMK-ADJL]

## LM2512SM
designator U?
Mobile Pixel Link Level 0, 24-Bit RGB Display Interface Serializer with Dithering and Look Up Table Option- NOT RECOMMENDED FOR NEW DESIGN - See LM2512A; PartNumber: LM2512SM; Manufacturer: National Semiconductor; CompType: MiscPower; PackageTopMarking: ZXYTT*LM25*12SM; FirstPublished: 4-Dec-2008; DatasheetVersion: Jun-2008; PackageVersion: revD, Jul-2007; PackageReference: SLH49A; Publisher: Altium Limited; PackageDescription: UFBGA, Plastic, Laminate, 4 x 4 x 1mm Body, 49 Ball, 0.5mm Pitch; RoHS: Y; PinCount: 49; DigiKeyPartNumber: LM2512SM-ND; ComponentLink1Description: LM2512 Datasheet; ComponentLink1URL: http://www.national.com/ds/LM/LM2512.pdf; ComponentLink2Description: LM2512 Web Page; ComponentLink2URL: http://www.national.com/pf/LM/LM2512.html; ComponentLink3Description: SLH49A Package Page; ComponentLink3URL: http://www.national.com/packaging/folders/slh49a.html
footprint SLH49A (BGA, 49-Leads, Body 4x4mm, Pitch 0.5mm)
pins: A1 B1 (in), A2 SPI_SDA/HS (io), A3 RES1 (in), A4 NC, A5 MD2 (out), A6 MD1 (out), A7 MD0 (out), B1 B2 (in), B2 B0 (in), B3 VS (in), B4 VDDA (power), B5 MC (out), B6 TM (in), B7 ~{PD} (in), C1 PCLK (in), C2 B3 (in), C3 DE (in), C4 VSSA (power), C5 SPI_CSX (in), C6 SPI_SCL (in), C7 R7 (in), D1 VSSIO (power), D2 VDDIO (power), D3 B4 (in), D4 VSSIO (power), D5 VSSIO (power), D6 VDDIO (power), D7 R6 (in), E1 B6 (in), E2 B7 (in), E3 G5 (in), E4 B5 (in), E5 R1 (in), E6 R4 (in), E7 R5 (in), F1 G0 (in), F2 G1 (in), F3 G4 (in), F4 VDD (power), F5 G6 (in), F6 R0 (in), F7 R3 (in), G1 G2 (in), G2 G3 (in), G3 VSS (power), G4 VSSIO (power), G5 VDDIO (power), G6 G7 (in), G7 R2 (in)

## LM2524DN
designator U?
Regulating Pulse Width Modulator; PartNumber: LM2524DN; Manufacturer: National Semiconductor; CompType: MiscPower; PackageTopMarking: NSUZXYYTT*LM2524DN; PowerWise: N; FirstPublished: 4-Dec-2008; DatasheetVersion: May-2008; PackageVersion: revG, May-2006; PackageReference: N16E; Publisher: Altium Limited; PackageDescription: MDIP, .750 x .250 x .130in, 16 Lead, .100in Pitch; RoHS: O; PinCount: 16; DigiKeyPartNumber: LM2524DN-ND; Code_JEDEC: MS-001-BB; ComponentLink1Description: LM2524D Datasheet; ComponentLink1URL: http://www.national.com/ds/LM/LM2524D.pdf; ComponentLink2Description: LM2524D Web Page; ComponentLink2URL: http://www.national.com/pf/LM/LM2524D.html; ComponentLink3Description: N16E Package Page; ComponentLink3URL: http://www.national.com/packaging/folders/n16e.html
footprint N16E (DIP, 16-Leads, Row Spacing 7.62mm, Pitch 2.54mm, Body 19.3x6.35mm)
pins: 1 INV (in), 2 IN (in), 3 OSC (out), 4 +CL (in), 5 -CL (in), 6 RT, 7 CT, 8 GND (power), 9 COMP (in), 10 SD (in), 11 EA, 12 CA, 13 CB, 14 EB, 15 VIN (power), 16 VR (power)

## LM2608ATL-1.3
designator U?
400mA Sub-miniature, High Efficiency, Programmable DC-DC Converter with Linear Mode; PartNumber: LM2608ATL-1.3; Manufacturer: National Semiconductor; CompType: MiscPower; PackageTopMarking: XYTT*I S43A; PowerWise: N; FirstPublished: 4-Dec-2008; DatasheetVersion: Dec-2002; PackageVersion: revD, Mar-2004; PackageReference: TLP108WA; Publisher: Altium Limited; PackageDescription: Thin Micro SMD, 10 Bump (Large), Periperal, 0.5mm Pitch; RoHS: Y; PinCount: 10; DigiKeyPartNumber: LM2608ATL-1.3CT-ND; Code_JEDEC: MO-211-BD; ComponentLink1Description: LM2608 Datasheet; ComponentLink1URL: http://www.national.com/ds/LM/LM2608.pdf; ComponentLink2Description: LM2608 Web Page; ComponentLink2URL: http://www.national.com/pf/LM/LM2608.html; ComponentLink3Description: TLP108WA Package Page; ComponentLink3URL: http://www.national.com/packaging/folders/tlp108wa.html
footprint TLP108WA (Micro SMD, 10-Leads, Body 2.5x2.25mm, Pitch 0.5mm, NSC Recommended)
pins: A1 FB (in), A2 SGND (power), A3 VDD (power), B1 VSEL (in), B3 PVIN (power), C1 VREF (in), C3 SW (power), D1 SYNC/MODE (in), D2 EN (in), D3 PGND (power)

## LM2619ATL
designator U?
500mA Sub-Miniature Step-Down DC-DC Converter; PartNumber: LM2619ATL; Manufacturer: National Semiconductor; CompType: MiscPower; PackageTopMarking: XYTT*I S76A; PowerWise: N; FirstPublished: 4-Dec-2008; DatasheetVersion: Oct-2003; PackageVersion: revD, Mar-2004; PackageReference: TLP108WA; Publisher: Altium Limited; PackageDescription: Thin Micro SMD, 10 Bump (Large), Periperal, 0.5mm Pitch; RoHS: O; PinCount: 10; DigiKeyPartNumber: LM2619ATLCT-ND; Code_JEDEC: MO-211-BD; ComponentLink1Description: LM2619 Datasheet; ComponentLink1URL: http://www.national.com/ds/LM/LM2619.pdf; ComponentLink2Description: LM2619 Web Page; ComponentLink2URL: http://www.national.com/pf/LM/LM2619.html; ComponentLink3Description: TLP108WA Package Page; ComponentLink3URL: http://www.national.com/packaging/folders/tlp108wa.html
footprint TLP108WA (Micro SMD, 10-Leads, Body 2.5x2.25mm, Pitch 0.5mm, NSC Recommended)
pins: A1 FB (in), A2 SGND (power), A3 VDD (power), B1 EANEG (in), B3 PVIN (power), C1 EAOUT (out), C3 SW (power), D1 SYNC/MODE (in), D2 EN (in), D3 PGND (power)

## LM2623ALD
designator U?
General Purpose, Gated Oscillator Based, DC/DC Boost Converter; PartNumber: LM2623ALD; Manufacturer: National Semiconductor; CompType: MiscPower; PackageTopMarking: NS*UZXYTT*2623A; PowerWise: N; FirstPublished: 4-Dec-2008; DatasheetVersion: Dec-2005; PackageVersion: revA, Aug-2000; PackageReference: LDA14A; Publisher: Altium Limited; PackageDescription: LLP, Plastic, Dual, 4 x 4 x 0.75mm Body, 14 Lead, 0.5mm Pitch; RoHS: Y; PinCount: 14; DigiKeyPartNumber: LM2623ALDCT-ND; ComponentLink1Description: LM2623 Datasheet; ComponentLink1URL: http://www.national.com/ds/LM/LM2623.pdf; ComponentLink2Description: LM2623 Web Page; ComponentLink2URL: http://www.national.com/pf/LM/LM2623.html; ComponentLink3Description: LDA14A Package Page; ComponentLink3URL: http://www.national.com/packaging/folders/lda14a.html
footprint LDA14A (PSON, 14-Leads, Body 4x4mm, Pitch 0.5mm, NSC Recommended)
pins: 1 NC, 2 PGND (power), 3 PGND (power), 4 EN (in), 5 FREQ (in), 6 FB (in), 7 NC, 8 NC, 9 SGND (power), 10 VDD (power), 11 BOOT, 12 SW (oc), 13 SW (oc), 14 NC, 15 DAP (power)

## LM2623AMM
designator U?
General Purpose, Gated Oscillator Based, DC/DC Boost Converter; PartNumber: LM2623AMM; Manufacturer: National Semiconductor; CompType: MiscPower; PackageTopMarking: ZXTT*S46A; PowerWise: N; FirstPublished: 4-Dec-2008; DatasheetVersion: Dec-2005; PackageVersion: revF, Apr-2008; PackageReference: MUA08A; Publisher: Altium Limited; PackageDescription: MINI SOIC, .118 x .118 x .034in, 8 Lead, .0256in Pitch; RoHS: O; PinCount: 8; DigiKeyPartNumber: LM2623AMMCT-ND; Code_JEDEC: MO-187-AA; ComponentLink1Description: LM2623 Datasheet; ComponentLink1URL: http://www.national.com/ds/LM/LM2623.pdf; ComponentLink2Description: LM2623 Web Page; ComponentLink2URL: http://www.national.com/pf/LM/LM2623.html; ComponentLink3Description: MUA08A Package Page; ComponentLink3URL: http://www.national.com/packaging/folders/mua08a.html
footprint MUA08A_N (TSOP, 8-Leads, Body 3x3mm, Pitch 0.65mm, IPC Medium Density)
footprint MUA08A_L (TSOP, 8-Leads, Body 3x3mm, Pitch 0.65mm, IPC High Density)
footprint MUA08A_M (TSOP, 8-Leads, Body 3x3mm, Pitch 0.65mm, IPC Low Density)
pins: 1 PGND (power), 2 EN (in), 3 FREQ (in), 4 FB (in), 5 SGND (power), 6 VDD (power), 7 BOOT, 8 SW (oc)

## LM2623LD
designator U?
General Purpose, Gated Oscillator Based, DC/DC Boost Converter; PartNumber: LM2623LD; Manufacturer: National Semiconductor; CompType: MiscPower; PackageTopMarking: NS*UZXYTT*2623AB; PowerWise: N; FirstPublished: 4-Dec-2008; DatasheetVersion: Dec-2005; PackageVersion: revA, Aug-2000; PackageReference: LDA14A; Publisher: Altium Limited; PackageDescription: LLP, Plastic, Dual, 4 x 4 x 0.75mm Body, 14 Lead, 0.5mm Pitch; RoHS: Y; PinCount: 14; DigiKeyPartNumber: LM2623LDCT-ND; ComponentLink1Description: LM2623 Datasheet; ComponentLink1URL: http://www.national.com/ds/LM/LM2623.pdf; ComponentLink2Description: LM2623 Web Page; ComponentLink2URL: http://www.national.com/pf/LM/LM2623.html; ComponentLink3Description: LDA14A Package Page; ComponentLink3URL: http://www.national.com/packaging/folders/lda14a.html
footprint LDA14A (PSON, 14-Leads, Body 4x4mm, Pitch 0.5mm, NSC Recommended)
pins: 1 NC, 2 PGND (power), 3 PGND (power), 4 EN (in), 5 FREQ (in), 6 FB (in), 7 NC, 8 NC, 9 SGND (power), 10 VDD (power), 11 BOOT, 12 SW (oc), 13 SW (oc), 14 NC, 15 DAP (power)

## LM2623MM
designator U?
General Purpose, Gated Oscillator Based, DC/DC Boost Converter; PartNumber: LM2623MM; Manufacturer: National Semiconductor; CompType: MiscPower; PackageTopMarking: ZXTT*S46B; PowerWise: N; FirstPublished: 4-Dec-2008; DatasheetVersion: Dec-2005; PackageVersion: revF, Apr-2008; PackageReference: MUA08A; Publisher: Altium Limited; PackageDescription: MINI SOIC, .118 x .118 x .034in, 8 Lead, .0256in Pitch; RoHS: Y; PinCount: 8; DigiKeyPartNumber: LM2623MMCT-ND; Code_JEDEC: MO-187-AA; ComponentLink1Description: LM2623 Datasheet; ComponentLink1URL: http://www.national.com/ds/LM/LM2623.pdf; ComponentLink2Description: LM2623 Web Page; ComponentLink2URL: http://www.national.com/pf/LM/LM2623.html; ComponentLink3Description: MUA08A Package Page; ComponentLink3URL: http://www.national.com/packaging/folders/mua08a.html
footprint MUA08A_N (TSOP, 8-Leads, Body 3x3mm, Pitch 0.65mm, IPC Medium Density)
footprint MUA08A_L (TSOP, 8-Leads, Body 3x3mm, Pitch 0.65mm, IPC High Density)
footprint MUA08A_M (TSOP, 8-Leads, Body 3x3mm, Pitch 0.65mm, IPC Low Density)
pins: 1 PGND (power), 2 EN (in), 3 FREQ (in), 4 FB (in), 5 SGND (power), 6 VDD (power), 7 BOOT, 8 SW (oc)

## LM2636M
designator U?
5-Bit Programmable Synchronous Buck Regulator Controller; PartNumber: LM2636M; Manufacturer: National Semiconductor; CompType: MiscPower; PackageTopMarking: NSUZXYTT*LM2636M; PowerWise: N; FirstPublished: 4-Dec-2008; DatasheetVersion: Mar-2005; PackageVersion: revG, Jan-1996; PackageReference: M20B; Publisher: Altium Limited; PackageDescription: Molded Package, S0, .300in Wide, 20 Lead; RoHS: Y; PinCount: 20; DigiKeyPartNumber: LM2636M-ND; Code_JEDEC: MS-013-AC; Code_IPC: SOIC127P1030-20; ComponentLink1Description: LM2636 Datasheet; ComponentLink1URL: http://www.national.com/ds/LM/LM2636.pdf; ComponentLink2Description: LM2636 Web Page; ComponentLink2URL: http://www.national.com/pf/LM/LM2636.html; ComponentLink3Description: M20B Package Page; ComponentLink3URL: http://www.national.com/packaging/folders/m20b.html
footprint M20B_N (SOIC, 20-Leads, Body 12.8x7.5mm, Pitch 1.27mm, IPC Medium Density)
footprint M20B_L (SOIC, 20-Leads, Body 12.8x7.5mm, Pitch 1.27mm, IPC High Density)
footprint M20B_M (SOIC, 20-Leads, Body 12.8x7.5mm, Pitch 1.27mm, IPC Low Density)
pins: 1 LSGATE (out), 2 BOOTV (power), 3 PGND (power), 4 SGND (power), 5 VCC (power), 6 SENSE (in), 7 IMAX (in), 8 IFB, 9 VREF (power), 10 EA_OUT (out), 11 FB (in), 12 FREQ_ADJ (in), 13 PWRGD (power), 14 VID4 (in), 15 VID3 (in), 16 VID2 (in), 17 VID1 (in), 18 VID0 (in), 19 OUTEN (in), 20 HSGATE (out)

## LM2636MTC
designator U?
5-Bit Programmable Synchronous Buck Regulator Controller; PartNumber: LM2636MTC; Manufacturer: National Semiconductor; CompType: MiscPower; PackageTopMarking: NSUZXYTT*LM2636*MTC; PowerWise: N; FirstPublished: 4-Dec-2008; DatasheetVersion: Mar-2005; PackageVersion: revE, Mar-2003; PackageReference: MTC20; Publisher: Altium Limited; PackageDescription: Molded TSSOP, Jedec, 6.5 x 4.4 x 0.9mm Body, 20 Lead, 0.65mm Pitch; RoHS: Y; PinCount: 20; DigiKeyPartNumber: LM2636MTC-ND; Code_JEDEC: MO-153-AC; ComponentLink1Description: LM2636 Datasheet; ComponentLink1URL: http://www.national.com/ds/LM/LM2636.pdf; ComponentLink2Description: LM2636 Web Page; ComponentLink2URL: http://www.national.com/pf/LM/LM2636.html; ComponentLink3Description: MTC20 Package Page; ComponentLink3URL: http://www.national.com/packaging/folders/mtc20.html
footprint MTC20_N (TSOP, 20-Leads, Body 6.5x4.4mm, Pitch 0.65mm, IPC Medium Density)
footprint MTC20_L (TSOP, 20-Leads, Body 6.5x4.4mm, Pitch 0.65mm, IPC High Density)
footprint MTC20_M (TSOP, 20-Leads, Body 6.5x4.4mm, Pitch 0.65mm, IPC Low Density)
pins: 1 LSGATE (out), 2 BOOTV (power), 3 PGND (power), 4 SGND (power), 5 VCC (power), 6 SENSE (in), 7 IMAX (in), 8 IFB, 9 VREF (power), 10 EA_OUT (out), 11 FB (in), 12 FREQ_ADJ (in), 13 PWRGD (power), 14 VID4 (in), 15 VID3 (in), 16 VID2 (in), 17 VID1 (in), 18 VID0 (in), 19 OUTEN (in), 20 HSGATE (out)